# EAGLE library part 72R507 (library con-molex)
BEAU Terminal Block 72 R Series
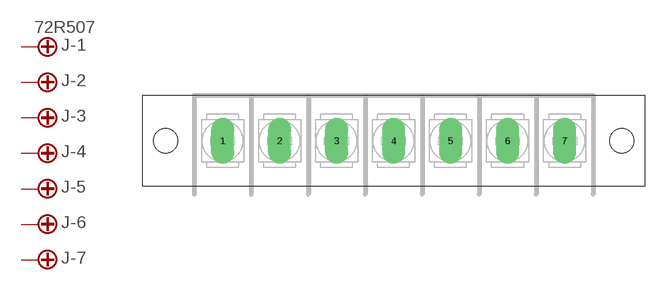
[diagram p127: symbol with the pads of 72R507; footprint 72R507]

Designator prefix J; gates -1=STV -2=ST -3=ST -4=ST -5=ST -6=ST -7=ST

## 72R507  [72R507]
1  -1:S  pas
2  -2:S  pas
3  -3:S  pas
4  -4:S  pas
5  -5:S  pas
6  -6:S  pas
7  -7:S  pas

## Footprint 72R507 (pad centres in mm)
BEAU Terminal Block 72 R Series - 0.375" pitch
drill 1.778 pad 3.81 long: 1 -28.575,0; 2 -19.05,0; 3 -9.525,0; 4 0,0; 5 9.525,0; 6 19.05,0; 7 28.575,0
hole 4.064 at -38.1,0
hole 4.064 at 38.1,0